# EAGLE library part MK20DX256VLH7 (library t32_ref)
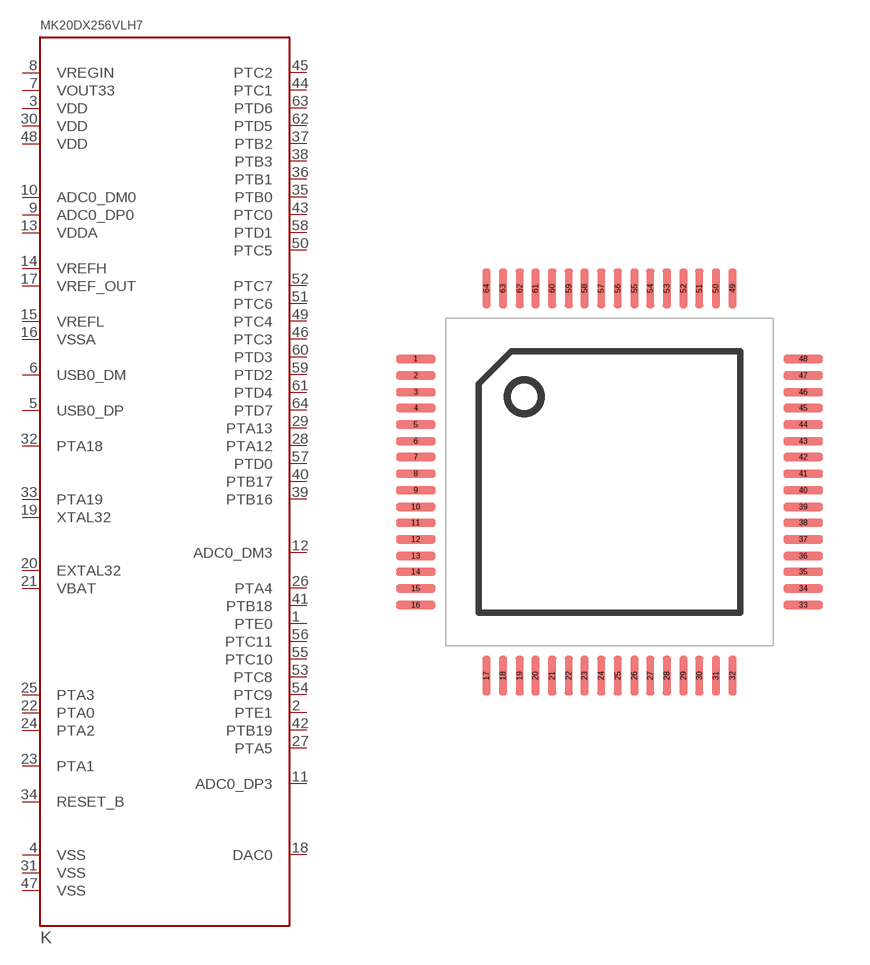
[diagram p0: symbol with the pads of LQFP64-05; footprint LQFP64-05]

Designator prefix K

## MK20DX256VLH7 (DESC: MK20DX256VLH7; MF: NXP; MPN: MK20DX256VLH7; OC_MOUSER: 841-MK20DX256VLH7; PACKAGE: LQFP-64; TYPE: Microcontroller)  [LQFP64-05]
1  PTE0
2  PTE1
3  VDD
4  VSS
5  USB0_DP
6  USB0_DM
7  VOUT33
8  VREGIN
9  ADC0_DP0
10  ADC0_DM0
11  ADC0_DP3
12  ADC0_DM3
13  VDDA
14  VREFH
15  VREFL
16  VSSA
17  VREF_OUT
18  DAC0
19  XTAL32
20  EXTAL32
21  VBAT
22  PTA0
23  PTA1
24  PTA2
25  PTA3
26  PTA4
27  PTA5
28  PTA12
29  PTA13
30  VDD
31  VSS
32  PTA18
33  PTA19
34  RESET_B
35  PTB0
36  PTB1
37  PTB2
38  PTB3
39  PTB16
40  PTB17
41  PTB18
42  PTB19
43  PTC0
44  PTC1
45  PTC2
46  PTC3
47  VSS
48  VDD
49  PTC4
50  PTC5
51  PTC6
52  PTC7
53  PTC8
54  PTC9
55  PTC10
56  PTC11
57  PTD0
58  PTD1
59  PTD2
60  PTD3
61  PTD4
62  PTD5
63  PTD6
64  PTD7

## Footprint LQFP64-05 (pad centres in mm)
smd 1.2 x 0.25: 1 -5.915,3.759; 2 -5.915,3.251; 3 -5.915,2.743; 4 -5.915,2.261; 5 -5.915,1.753; 6 -5.915,1.245; 7 -5.915,0.762; 8 -5.915,0.254; 9 -5.915,-0.254; 10 -5.915,-0.762; 11 -5.915,-1.245; 12 -5.915,-1.753; 13 -5.915,-2.261; 14 -5.915,-2.743; 15 -5.915,-3.251; 16 -5.915,-3.759; 33 5.915,-3.759; 34 5.915,-3.251; 35 5.915,-2.743; 36 5.915,-2.261; 37 5.915,-1.753; 38 5.915,-1.245; 39 5.915,-0.762; 40 5.915,-0.254; 41 5.915,0.254; 42 5.915,0.762; 43 5.915,1.245; 44 5.915,1.753; 45 5.915,2.261; 46 5.915,2.743; 47 5.915,3.251; 48 5.915,3.759
smd 0.25 x 1.2: 17 -3.759,-5.915; 18 -3.251,-5.915; 19 -2.743,-5.915; 20 -2.261,-5.915; 21 -1.753,-5.915; 22 -1.245,-5.915; 23 -0.762,-5.915; 24 -0.254,-5.915; 25 0.254,-5.915; 26 0.762,-5.915; 27 1.245,-5.915; 28 1.753,-5.915; 29 2.261,-5.915; 30 2.743,-5.915; 31 3.251,-5.915; 32 3.759,-5.915; 49 3.759,5.915; 50 3.251,5.915; 51 2.743,5.915; 52 2.261,5.915; 53 1.753,5.915; 54 1.245,5.915; 55 0.762,5.915; 56 0.254,5.915; 57 -0.254,5.915; 58 -0.762,5.915; 59 -1.245,5.915; 60 -1.753,5.915; 61 -2.261,5.915; 62 -2.743,5.915; 63 -3.251,5.915; 64 -3.759,5.915